# Altium footprint library DFN_Test.PcbLib: 6 footprints
Each footprint in its own frame and in the unit in brackets; x right, y up, seen from the top. Pads: shape width x height; smd on the part's side, far side on the other; paste and mask are expansions set on the pad; w line width, h text height; cw(c..) or ccw(c..) is an arc to the next point about the centre after c.
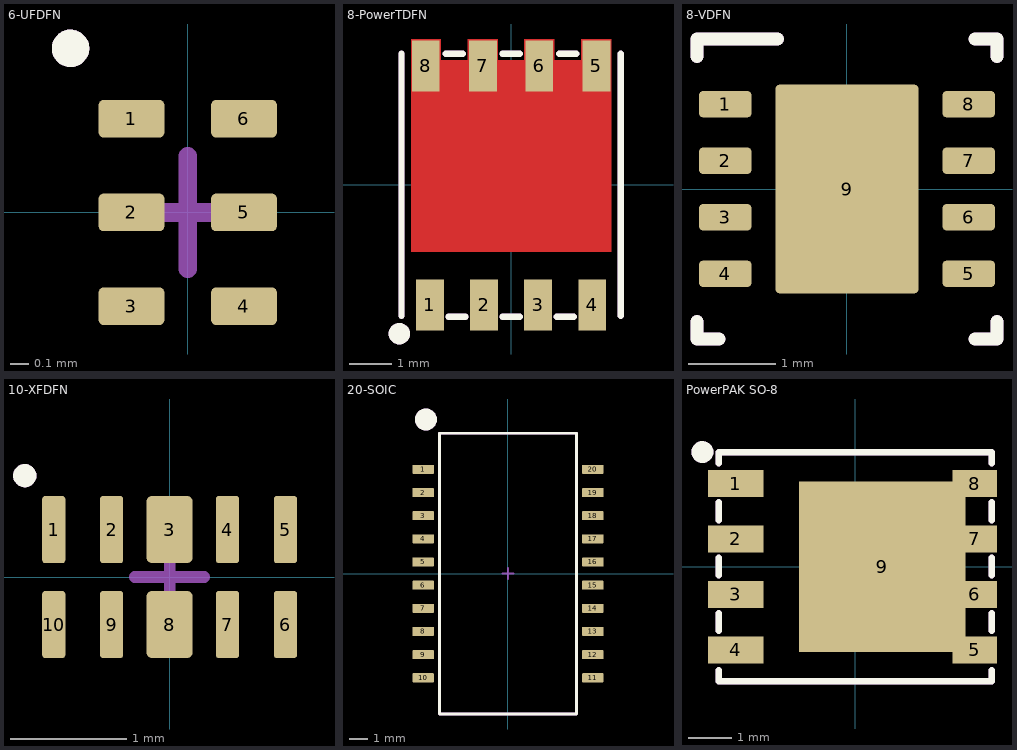
[diagram p0: the footprints below, top view; thin cyan lines are the x and y axes]

## 6-UFDFN [mm]
pads (6):
  rrect25% 0.35x0.2 smd: 1(-0.3,0.5) 2(-0.3,0) 3(-0.3,-0.5) 4(0.3,-0.5) 5(0.3,0) 6(0.3,0.5)
Top Overlay:
  circle w0.1: c-0.625,0.875 r0.05
Mechanical 15:
  lines w0.1: -0.3,0 0.3,0 ; 0,-0.3 0,0.3
Mechanical 29:
  circle w0.1: c-0.625,0.875 r0.05
  text "'.Designator'" at 0.079,-0.615 h0.25
3D body: height 0.6, standoff 0.08, extent -0.525,-0.75 0.525,0.75

## 8-PowerTDFN [mm]
pads (8):
  rect 0.65x1.2 smd: 1(-1.905,-2.825) 2(-0.635,-2.825) 3(0.635,-2.825) 4(1.905,-2.825) 5(2.007,2.794) 6(0.66,2.794) 7(-0.66,2.794) 8(-2.007,2.794)
Top Layer:
  region: 0.315,2.925 1.015,2.925 1.015,3.425 0.315,3.425
  region: -1.015,2.925 -0.315,2.925 -0.315,3.425 -1.015,3.425
  region: 1.65,2.925 2.35,2.925 2.35,3.425 1.65,3.425
  region: -2.35,2.925 -1.65,2.925 -1.65,3.425 -2.35,3.425
  region: -2.35,2.925 -2.35,-1.575 2.35,-1.575 2.35,2.925
Top Overlay:
  circle w0.25: c-2.625,-3.5 r0.125
  lines w0.15: -2.575,-3.075 -2.575,3.075 ; -1.533,3.075 -1.134,3.075 ; -1.47,-3.106 -1.07,-3.106 ; -0.2,-3.106 0.2,-3.106 ; -0.2,3.075 0.2,3.075 ; 1.07,-3.106 1.47,-3.106 ; 1.134,3.075 1.533,3.075 ; 2.575,-3.075 2.575,3.075
Mechanical 15:
  lines w0.1: -0.3,0 0.3,0 ; 0,-0.3 0,0.3
Mechanical 29:
  circle w0.25: c-2.625,-3.5 r0.125
  lines w0.15: -2.575,-3.075 -2.575,3.075 ; -1.533,3.075 -1.134,3.075 ; -1.47,-3.106 -1.07,-3.106 ; -0.2,-3.106 0.2,-3.106 ; -0.2,3.075 0.2,3.075 ; 1.07,-3.106 1.47,-3.106 ; 1.134,3.075 1.533,3.075 ; 2.575,-3.075 2.575,3.075
  text "'.Designator'" at 0.172,-1.839 h0.76
3D body: height 1, standoff 0, extent -2.575,-3.075 2.575,3.075

## 8-VDFN [mm] "8-VDFN/8-SON"
pads (9):
  rrect25% 0.6x0.3 smd: 1(-1.4,0.975) 2(-1.4,0.325) 3(-1.4,-0.325) 4(-1.4,-0.975) 5(1.4,-0.975) 6(1.4,-0.325) 7(1.4,0.325) 8(1.4,0.975)
  rrect6% 1.65x2.4 smd paste-1.2: 9(0,0)
Top Overlay:
  lines w0.15: -1.725,-1.525 -1.725,-1.725 -1.475,-1.725 ; -1.725,1.525 -1.725,1.725 -0.8,1.725 ; 1.475,-1.725 1.725,-1.725 1.725,-1.525 ; 1.475,1.725 1.725,1.725 1.725,1.525
Top Paste:
  rectangle: -0.751,0.1 0.752,1.143
  rectangle: -0.751,-1.143 0.752,-0.1
Mechanical 15:
  lines w0.1: -0.3,0 0.3,0 ; 0,-0.3 0,0.3
Mechanical 29:
  lines w0.15: -1.725,-1.525 -1.725,-1.725 -1.475,-1.725 ; -1.725,1.525 -1.725,1.725 -0.8,1.725 ; 1.475,-1.725 1.725,-1.725 1.725,-1.525 ; 1.475,1.725 1.725,1.725 1.725,1.525
  text "'.Designator'" at -1.534,-0.198 h0.64
3D body "DRB0008B.stp": height 0.96, standoff 0.01, extent -1.5,-1.5 1.5,1.5

## 10-XFDFN [mm]
pads (10):
  rrect25% 0.2x0.58 smd mask+0.05: 1(-1,0.41) 2(-0.5,0.41) 4(0.5,0.41) 5(1,0.41) 6(1,-0.41) 7(0.5,-0.41) 9(-0.5,-0.41) 10(-1,-0.41)
  rrect25% 0.4x0.58 smd mask+0.05: 3(0,0.41) 8(0,-0.41)
Top Overlay:
  circle w0.1: c-1.25,0.875 r0.05
Mechanical 15:
  lines w0.1: -0.3,0 0.3,0 ; 0,-0.3 0,0.3
Mechanical 29:
  circle w0.1: c-1.25,0.875 r0.05
  text "'.Designator'" at -1.229,-0.159 h0.51
3D body: height 0.47, standoff 0.05, extent -1.2,-0.8 1.2,0.8

## 20-SOIC [mm] "20-SOIC-IC (0.295\", 7.50mm Width)"
pads (20):
  rrect25% 1.2x0.5 smd mask+0.05: 1(-4.65,5.715) 2(-4.65,4.445) 3(-4.65,3.175) 4(-4.65,1.905) 5(-4.65,0.635) 6(-4.65,-0.635) 7(-4.65,-1.905) 8(-4.65,-3.175) 9(-4.65,-4.445) 10(-4.65,-5.715) 11(4.65,-5.715) 12(4.65,-4.445) 13(4.65,-3.175) 14(4.65,-1.905) 15(4.65,-0.635) 16(4.65,0.635) 17(4.65,1.905) 18(4.65,3.175) 19(4.65,4.445) 20(4.65,5.715)
Top Overlay:
  circle w0.6: c-4.5,8.45 r0.3
  lines w0.15: -3.75,-7.7 3.75,-7.7 3.75,7.7 -3.75,7.7 -3.75,-7.7
Mechanical 15:
  lines w0.1: -0.3,0 0.3,0 ; 0,-0.3 0,0.3
Mechanical 29:
  circle w0.6: c-4.5,8.45 r0.3
  lines w0.15: -3.75,-7.7 3.75,-7.7 3.75,7.7 -3.75,7.7 -3.75,-7.7
  text "'.Designator'" at -2.457,-0.23 h1.02
3D body "Package, SOIC-20, 7.5mm.STEP": height 2.31, standoff 0.01, extent -5.15,-6.4 5.15,6.4

## PowerPAK SO-8 [mm]
pads (9):
  rect 1.27x0.61 smd mask+0.05: 1(-2.732,1.905) 2(-2.732,0.635) 3(-2.732,-0.635) 4(-2.732,-1.905)
  rect 1.02x0.61 smd mask+0.05: 5(2.733,-1.905) 6(2.733,-0.635) 7(2.733,0.635) 8(2.733,1.905)
  rect 3.81x3.91 smd mask+0.05: 9(0.62,0)
Top Overlay:
  circle w0.25: c-3.5,2.625 r0.125
  lines w0.15: -3.125,-2.375 -3.125,-2.625 3.125,-2.625 3.125,-2.375 ; -3.125,-1.47 -3.125,-1.07 ; -3.125,-0.2 -3.125,0.2 ; -3.125,1.07 -3.125,1.47 ; -3.125,2.375 -3.125,2.625 3.125,2.625 3.125,2.375 ; 3.126,-1.47 3.126,-1.07 ; 3.126,-0.2 3.126,0.2 ; 3.126,1.07 3.126,1.47
Mechanical 15:
  lines w0.1: -0.3,0 0.3,0 ; 0,-0.3 0,0.3
Mechanical 29:
  circle w0.25: c-3.5,2.625 r0.125
  lines w0.15: -3.125,-2.375 -3.125,-2.625 3.125,-2.625 3.125,-2.375 ; -3.125,-1.47 -3.125,-1.07 ; -3.125,-0.2 -3.125,0.2 ; -3.125,1.07 -3.125,1.47 ; -3.125,2.375 -3.125,2.625 3.125,2.625 3.125,2.375 ; 3.126,-1.47 3.126,-1.07 ; 3.126,-0.2 3.126,0.2 ; 3.126,1.07 3.126,1.47
  text "'.Designator'" at -1.84,-0.172 h0.76
3D body "User Library-PowerPAK_SO8_single.STEP": height 1.13, standoff 0.01, extent -3.12,-2.625 3.12,2.625